# Altium schematic symbol library kmilo17pet-LT_PMIC_LT.SchLib: 2252 symbols (part 26 of 124)
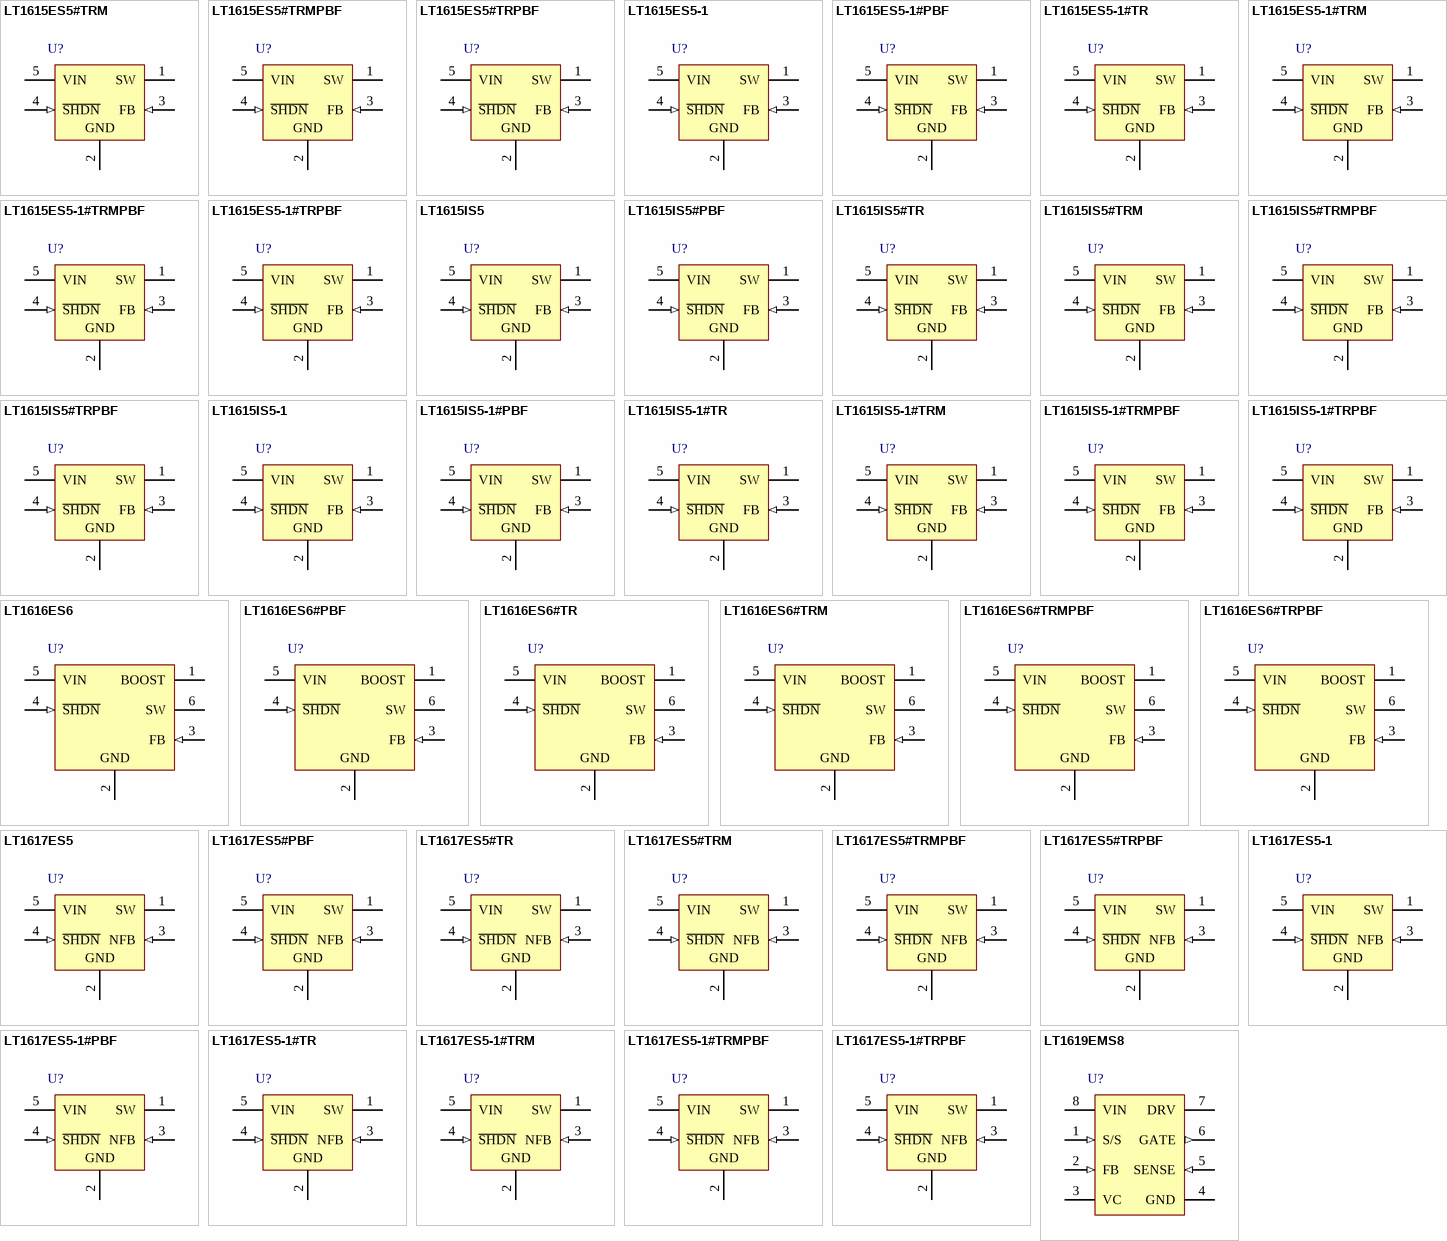
[diagram p96: symbols LT1615ES5#TRM to LT1619EMS8]

## LT1617ES5#TRMPBF
designator U?
Micropower Inverting DC/DC Converter, 5-pin SOT23 (S5-5), -40 to 85 degC, Pb-Free, Mini Tape and Reel; Manufacturer: Linear Technology; PartNumber: LT1617ES5#TRMPBF; Number of Outputs: 1; PackageReference: S5-5; PackageDescription: 5-Pin Plastic SOT-23, Body 1.625 x 2.90 mm, Pitch 0.95 mm; Supplier 1: Digi-Key; Supplier Part Number 1: LT1617ES5#TRMPBFTR-ND; RoHS: TRUE
footprint LT-S5-5-SOT-23_N (SOT23, 5-Leads, Body 3x1.75mm, Pitch 0.95mm, IPC Medium Density)
footprint LT-S5-5-SOT-23_L (SOT23, 5-Leads, Body 3x1.75mm, Pitch 0.95mm, IPC High Density)
footprint LT-S5-5-SOT-23_M (SOT23, 5-Leads, Body 3x1.75mm, Pitch 0.95mm, IPC Low Density)
pins: 1 SW (power) "Switch Pin. Minimize trace area at this pin to keep EMI down.", 2 GND (power) "Ground. Tie directly to local ground plane.", 3 NFB (in) "Negative Feedback Pin.", 4 ~{SHDN} (in) "Shutdown Pin.", 5 VIN (power) "Input Supply Pin. Must be locally bypassed."

## LT1617ES5#TRPBF
designator U?
Micropower Inverting DC/DC Converter, 5-pin SOT23 (S5-5), -40 to 85 degC, Pb-Free, Tape and Reel; Manufacturer: Linear Technology; PartNumber: LT1617ES5#TRPBF; Number of Outputs: 1; PackageReference: S5-5; PackageDescription: 5-Pin Plastic SOT-23, Body 1.625 x 2.90 mm, Pitch 0.95 mm; Supplier 1: Digi-Key; Supplier Part Number 1: LT1617ES5#TRPBF-ND; RoHS: TRUE
footprint LT-S5-5-SOT-23_N (SOT23, 5-Leads, Body 3x1.75mm, Pitch 0.95mm, IPC Medium Density)
footprint LT-S5-5-SOT-23_L (SOT23, 5-Leads, Body 3x1.75mm, Pitch 0.95mm, IPC High Density)
footprint LT-S5-5-SOT-23_M (SOT23, 5-Leads, Body 3x1.75mm, Pitch 0.95mm, IPC Low Density)
pins: 1 SW (power) "Switch Pin. Minimize trace area at this pin to keep EMI down.", 2 GND (power) "Ground. Tie directly to local ground plane.", 3 NFB (in) "Negative Feedback Pin.", 4 ~{SHDN} (in) "Shutdown Pin.", 5 VIN (power) "Input Supply Pin. Must be locally bypassed."

## LT1617ES5-1
designator U?
Micropower Inverting DC/DC Converter, 5-pin SOT23 (S5-5), -40 to 85 degC; Manufacturer: Linear Technology; PartNumber: LT1617ES5-1; Number of Outputs: 1; PackageReference: S5-5; PackageDescription: 5-Pin Plastic SOT-23, Body 1.625 x 2.90 mm, Pitch 0.95 mm; RoHS: FALSE
footprint LT-S5-5-SOT-23_N (SOT23, 5-Leads, Body 3x1.75mm, Pitch 0.95mm, IPC Medium Density)
footprint LT-S5-5-SOT-23_L (SOT23, 5-Leads, Body 3x1.75mm, Pitch 0.95mm, IPC High Density)
footprint LT-S5-5-SOT-23_M (SOT23, 5-Leads, Body 3x1.75mm, Pitch 0.95mm, IPC Low Density)
pins: 1 SW (power) "Switch Pin. Minimize trace area at this pin to keep EMI down.", 2 GND (power) "Ground. Tie directly to local ground plane.", 3 NFB (in) "Negative Feedback Pin.", 4 ~{SHDN} (in) "Shutdown Pin.", 5 VIN (power) "Input Supply Pin. Must be locally bypassed."

## LT1617ES5-1#PBF
designator U?
Micropower Inverting DC/DC Converter, 5-pin SOT23 (S5-5), -40 to 85 degC, Pb-Free; Manufacturer: Linear Technology; PartNumber: LT1617ES5-1#PBF; Number of Outputs: 1; PackageReference: S5-5; PackageDescription: 5-Pin Plastic SOT-23, Body 1.625 x 2.90 mm, Pitch 0.95 mm; Supplier 1: Farnell; Supplier Part Number 1: 2294890; RoHS: TRUE
footprint LT-S5-5-SOT-23_N (SOT23, 5-Leads, Body 3x1.75mm, Pitch 0.95mm, IPC Medium Density)
footprint LT-S5-5-SOT-23_L (SOT23, 5-Leads, Body 3x1.75mm, Pitch 0.95mm, IPC High Density)
footprint LT-S5-5-SOT-23_M (SOT23, 5-Leads, Body 3x1.75mm, Pitch 0.95mm, IPC Low Density)
pins: 1 SW (power) "Switch Pin. Minimize trace area at this pin to keep EMI down.", 2 GND (power) "Ground. Tie directly to local ground plane.", 3 NFB (in) "Negative Feedback Pin.", 4 ~{SHDN} (in) "Shutdown Pin.", 5 VIN (power) "Input Supply Pin. Must be locally bypassed."

## LT1617ES5-1#TR
designator U?
Micropower Inverting DC/DC Converter, 5-pin SOT23 (S5-5), -40 to 85 degC, Tape and Reel; Manufacturer: Linear Technology; PartNumber: LT1617ES5-1#TR; Number of Outputs: 1; PackageReference: S5-5; PackageDescription: 5-Pin Plastic SOT-23, Body 1.625 x 2.90 mm, Pitch 0.95 mm; Supplier 1: Digi-Key; Supplier Part Number 1: LT1617ES5-1#TR-ND; RoHS: FALSE
footprint LT-S5-5-SOT-23_N (SOT23, 5-Leads, Body 3x1.75mm, Pitch 0.95mm, IPC Medium Density)
footprint LT-S5-5-SOT-23_L (SOT23, 5-Leads, Body 3x1.75mm, Pitch 0.95mm, IPC High Density)
footprint LT-S5-5-SOT-23_M (SOT23, 5-Leads, Body 3x1.75mm, Pitch 0.95mm, IPC Low Density)
pins: 1 SW (power) "Switch Pin. Minimize trace area at this pin to keep EMI down.", 2 GND (power) "Ground. Tie directly to local ground plane.", 3 NFB (in) "Negative Feedback Pin.", 4 ~{SHDN} (in) "Shutdown Pin.", 5 VIN (power) "Input Supply Pin. Must be locally bypassed."

## LT1617ES5-1#TRM
designator U?
Micropower Inverting DC/DC Converter, 5-pin SOT23 (S5-5), -40 to 85 degC, Mini Tape and Reel; Manufacturer: Linear Technology; PartNumber: LT1617ES5-1#TRM; Number of Outputs: 1; PackageReference: S5-5; PackageDescription: 5-Pin Plastic SOT-23, Body 1.625 x 2.90 mm, Pitch 0.95 mm; Supplier 1: Digi-Key; Supplier Part Number 1: LT1617ES5-1#TRM-ND; RoHS: FALSE
footprint LT-S5-5-SOT-23_N (SOT23, 5-Leads, Body 3x1.75mm, Pitch 0.95mm, IPC Medium Density)
footprint LT-S5-5-SOT-23_L (SOT23, 5-Leads, Body 3x1.75mm, Pitch 0.95mm, IPC High Density)
footprint LT-S5-5-SOT-23_M (SOT23, 5-Leads, Body 3x1.75mm, Pitch 0.95mm, IPC Low Density)
pins: 1 SW (power) "Switch Pin. Minimize trace area at this pin to keep EMI down.", 2 GND (power) "Ground. Tie directly to local ground plane.", 3 NFB (in) "Negative Feedback Pin.", 4 ~{SHDN} (in) "Shutdown Pin.", 5 VIN (power) "Input Supply Pin. Must be locally bypassed."

## LT1617ES5-1#TRMPBF
designator U?
Micropower Inverting DC/DC Converter, 5-pin SOT23 (S5-5), -40 to 85 degC, Pb-Free, Mini Tape and Reel; Manufacturer: Linear Technology; PartNumber: LT1617ES5-1#TRMPBF; Number of Outputs: 1; PackageReference: S5-5; PackageDescription: 5-Pin Plastic SOT-23, Body 1.625 x 2.90 mm, Pitch 0.95 mm; Supplier 1: Digi-Key; Supplier Part Number 1: LT1617ES5-1#TRMPBFTR-ND; RoHS: TRUE
footprint LT-S5-5-SOT-23_N (SOT23, 5-Leads, Body 3x1.75mm, Pitch 0.95mm, IPC Medium Density)
footprint LT-S5-5-SOT-23_L (SOT23, 5-Leads, Body 3x1.75mm, Pitch 0.95mm, IPC High Density)
footprint LT-S5-5-SOT-23_M (SOT23, 5-Leads, Body 3x1.75mm, Pitch 0.95mm, IPC Low Density)
pins: 1 SW (power) "Switch Pin. Minimize trace area at this pin to keep EMI down.", 2 GND (power) "Ground. Tie directly to local ground plane.", 3 NFB (in) "Negative Feedback Pin.", 4 ~{SHDN} (in) "Shutdown Pin.", 5 VIN (power) "Input Supply Pin. Must be locally bypassed."

## LT1617ES5-1#TRPBF
designator U?
Micropower Inverting DC/DC Converter, 5-pin SOT23 (S5-5), -40 to 85 degC, Pb-Free, Tape and Reel; Manufacturer: Linear Technology; PartNumber: LT1617ES5-1#TRPBF; Number of Outputs: 1; PackageReference: S5-5; PackageDescription: 5-Pin Plastic SOT-23, Body 1.625 x 2.90 mm, Pitch 0.95 mm; Supplier 1: Digi-Key; Supplier Part Number 1: LT1617ES5-1#TRPBF-ND; RoHS: TRUE
footprint LT-S5-5-SOT-23_N (SOT23, 5-Leads, Body 3x1.75mm, Pitch 0.95mm, IPC Medium Density)
footprint LT-S5-5-SOT-23_L (SOT23, 5-Leads, Body 3x1.75mm, Pitch 0.95mm, IPC High Density)
footprint LT-S5-5-SOT-23_M (SOT23, 5-Leads, Body 3x1.75mm, Pitch 0.95mm, IPC Low Density)
pins: 1 SW (power) "Switch Pin. Minimize trace area at this pin to keep EMI down.", 2 GND (power) "Ground. Tie directly to local ground plane.", 3 NFB (in) "Negative Feedback Pin.", 4 ~{SHDN} (in) "Shutdown Pin.", 5 VIN (power) "Input Supply Pin. Must be locally bypassed."

## LT1619EMS8
designator U?
Low Voltage Current Mode PWM Controller, 8-pin SOP (MS8-8), -40 to 85 degC; Manufacturer: Linear Technology; PartNumber: LT1619EMS8; Number of Outputs: 1; PackageReference: MS8-8; PackageDescription: 8-Pin Plastic MSOP, Body 3 x 3 mm, Pitch 0.65 mm; Supplier 1: Digi-Key; Supplier Part Number 1: LT1619EMS8-ND; RoHS: FALSE
footprint LT-MS8-8_N (SOP, 8-Leads, Body 3.1x3.1mm, Pitch 0.65mm, IPC Medium Density)
footprint LT-MS8-8_L (SOP, 8-Leads, Body 3.1x3.1mm, Pitch 0.65mm, IPC High Density)
footprint LT-MS8-8_M (SOP, 8-Leads, Body 3.1x3.1mm, Pitch 0.65mm, IPC Low Density)
pins: 1 S/S (in) "Shutdown and Synchronization. Shutdown is active low with a typical threshold voltage of 0.9V. For normal operation, the S/S pin is tied to VIN. To externally synchronize the controller, drive the S/S pin with pulses.", 2 FB (in) "The inverting Input of the Error Amplifier. Connect the resistor divider tap here. Set VOUT according to VOUT = 1.24(1 + R1/R2). See Figure 1.", 3 VC "Compensation Pin for the Error Amplifier. VC is the output of the transconductance amplifier. Overall loop is compensated with an RC network from this pin to the ground.", 4 GND (power) "Ground. Connect to local ground plane.", 5 SENSE (in) "The Input of the Current Sense Amplifier. The SENSE pin is connected to the source of the N-channel MOSFET and to a sense resistor to the ground. The current limit threshold is internally set at 53mV, giving a maximum switch (See Datasheet)", 6 GATE (out) "The Output of the MOSFET Driver.", 7 DRV (power) "The Pull-Up Supply of the MOSFET Driver. Tie this pin to VIN (Pin 8) for nonbootstrapped operation or to the converter output for bootstrapped operation.", 8 VIN (power) "Supply or Battery Input. Must be closely bypassed to the ground plane."

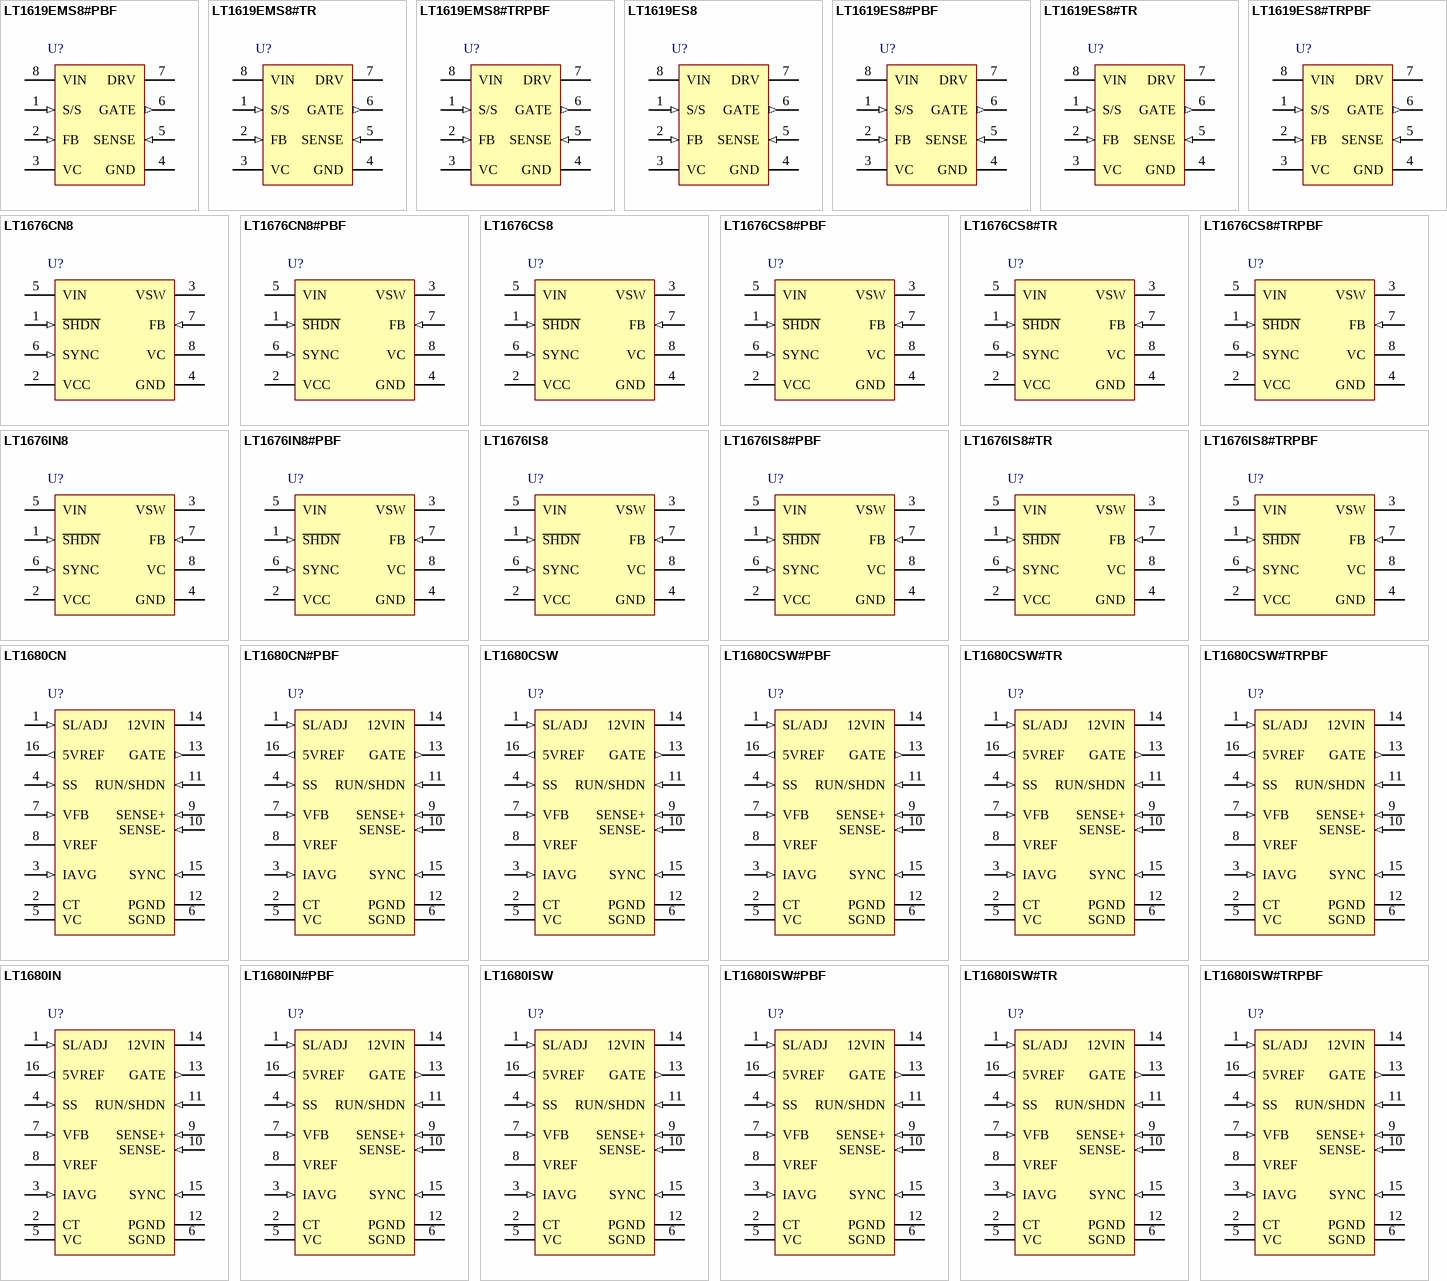
[diagram p18: symbols LT1619EMS8#PBF to LT1680ISW#TRPBF]

## LT1619EMS8#PBF
designator U?
Low Voltage Current Mode PWM Controller, 8-pin SOP (MS8-8), -40 to 85 degC, Pb-Free; Manufacturer: Linear Technology; PartNumber: LT1619EMS8#PBF; Number of Outputs: 1; PackageReference: MS8-8; PackageDescription: 8-Pin Plastic MSOP, Body 3 x 3 mm, Pitch 0.65 mm; Supplier 1: Digi-Key; Supplier Part Number 1: LT1619EMS8#PBF-ND; RoHS: TRUE
footprint LT-MS8-8_N (SOP, 8-Leads, Body 3.1x3.1mm, Pitch 0.65mm, IPC Medium Density)
footprint LT-MS8-8_L (SOP, 8-Leads, Body 3.1x3.1mm, Pitch 0.65mm, IPC High Density)
footprint LT-MS8-8_M (SOP, 8-Leads, Body 3.1x3.1mm, Pitch 0.65mm, IPC Low Density)
pins: 1 S/S (in) "Shutdown and Synchronization. Shutdown is active low with a typical threshold voltage of 0.9V. For normal operation, the S/S pin is tied to VIN. To externally synchronize the controller, drive the S/S pin with pulses.", 2 FB (in) "The inverting Input of the Error Amplifier. Connect the resistor divider tap here. Set VOUT according to VOUT = 1.24(1 + R1/R2). See Figure 1.", 3 VC "Compensation Pin for the Error Amplifier. VC is the output of the transconductance amplifier. Overall loop is compensated with an RC network from this pin to the ground.", 4 GND (power) "Ground. Connect to local ground plane.", 5 SENSE (in) "The Input of the Current Sense Amplifier. The SENSE pin is connected to the source of the N-channel MOSFET and to a sense resistor to the ground. The current limit threshold is internally set at 53mV, giving a maximum switch (See Datasheet)", 6 GATE (out) "The Output of the MOSFET Driver.", 7 DRV (power) "The Pull-Up Supply of the MOSFET Driver. Tie this pin to VIN (Pin 8) for nonbootstrapped operation or to the converter output for bootstrapped operation.", 8 VIN (power) "Supply or Battery Input. Must be closely bypassed to the ground plane."

## LT1619EMS8#TR
designator U?
Low Voltage Current Mode PWM Controller, 8-pin SOP (MS8-8), -40 to 85 degC, Tape and Reel; Manufacturer: Linear Technology; PartNumber: LT1619EMS8#TR; Number of Outputs: 1; PackageReference: MS8-8; PackageDescription: 8-Pin Plastic MSOP, Body 3 x 3 mm, Pitch 0.65 mm; Supplier 1: Digi-Key; Supplier Part Number 1: LT1619EMS8TR-ND; RoHS: FALSE
footprint LT-MS8-8_N (SOP, 8-Leads, Body 3.1x3.1mm, Pitch 0.65mm, IPC Medium Density)
footprint LT-MS8-8_L (SOP, 8-Leads, Body 3.1x3.1mm, Pitch 0.65mm, IPC High Density)
footprint LT-MS8-8_M (SOP, 8-Leads, Body 3.1x3.1mm, Pitch 0.65mm, IPC Low Density)
pins: 1 S/S (in) "Shutdown and Synchronization. Shutdown is active low with a typical threshold voltage of 0.9V. For normal operation, the S/S pin is tied to VIN. To externally synchronize the controller, drive the S/S pin with pulses.", 2 FB (in) "The inverting Input of the Error Amplifier. Connect the resistor divider tap here. Set VOUT according to VOUT = 1.24(1 + R1/R2). See Figure 1.", 3 VC "Compensation Pin for the Error Amplifier. VC is the output of the transconductance amplifier. Overall loop is compensated with an RC network from this pin to the ground.", 4 GND (power) "Ground. Connect to local ground plane.", 5 SENSE (in) "The Input of the Current Sense Amplifier. The SENSE pin is connected to the source of the N-channel MOSFET and to a sense resistor to the ground. The current limit threshold is internally set at 53mV, giving a maximum switch (See Datasheet)", 6 GATE (out) "The Output of the MOSFET Driver.", 7 DRV (power) "The Pull-Up Supply of the MOSFET Driver. Tie this pin to VIN (Pin 8) for nonbootstrapped operation or to the converter output for bootstrapped operation.", 8 VIN (power) "Supply or Battery Input. Must be closely bypassed to the ground plane."

## LT1619EMS8#TRPBF
designator U?
Low Voltage Current Mode PWM Controller, 8-pin SOP (MS8-8), -40 to 85 degC, Pb-Free, Tape and Reel; Manufacturer: Linear Technology; PartNumber: LT1619EMS8#TRPBF; Number of Outputs: 1; PackageReference: MS8-8; PackageDescription: 8-Pin Plastic MSOP, Body 3 x 3 mm, Pitch 0.65 mm; Supplier 1: Digi-Key; Supplier Part Number 1: LT1619EMS8#TRPBF-ND; RoHS: TRUE
footprint LT-MS8-8_N (SOP, 8-Leads, Body 3.1x3.1mm, Pitch 0.65mm, IPC Medium Density)
footprint LT-MS8-8_L (SOP, 8-Leads, Body 3.1x3.1mm, Pitch 0.65mm, IPC High Density)
footprint LT-MS8-8_M (SOP, 8-Leads, Body 3.1x3.1mm, Pitch 0.65mm, IPC Low Density)
pins: 1 S/S (in) "Shutdown and Synchronization. Shutdown is active low with a typical threshold voltage of 0.9V. For normal operation, the S/S pin is tied to VIN. To externally synchronize the controller, drive the S/S pin with pulses.", 2 FB (in) "The inverting Input of the Error Amplifier. Connect the resistor divider tap here. Set VOUT according to VOUT = 1.24(1 + R1/R2). See Figure 1.", 3 VC "Compensation Pin for the Error Amplifier. VC is the output of the transconductance amplifier. Overall loop is compensated with an RC network from this pin to the ground.", 4 GND (power) "Ground. Connect to local ground plane.", 5 SENSE (in) "The Input of the Current Sense Amplifier. The SENSE pin is connected to the source of the N-channel MOSFET and to a sense resistor to the ground. The current limit threshold is internally set at 53mV, giving a maximum switch (See Datasheet)", 6 GATE (out) "The Output of the MOSFET Driver.", 7 DRV (power) "The Pull-Up Supply of the MOSFET Driver. Tie this pin to VIN (Pin 8) for nonbootstrapped operation or to the converter output for bootstrapped operation.", 8 VIN (power) "Supply or Battery Input. Must be closely bypassed to the ground plane."

## LT1619ES8
designator U?
Low Voltage Current Mode PWM Controller, 8-pin SOIC (S8-8), -40 to 85 degC; Manufacturer: Linear Technology; PartNumber: LT1619ES8; Number of Outputs: 1; PackageReference: S8-8; PackageDescription: 8-Pin Plastic Small Outline (Narrow .150 Inch), Body 4.9 x 3.9 mm, Pitch 1.27 mm; Supplier 1: Digi-Key; Supplier Part Number 1: LT1619ES8-ND; RoHS: FALSE
footprint LT-S8-8_N (SOIC, 8-Leads, Body 5x4mm, Pitch 1.27mm, IPC Medium Density)
footprint LT-S8-8_L (SOIC, 8-Leads, Body 5x4mm, Pitch 1.27mm, IPC High Density)
footprint LT-S8-8_M (SOIC, 8-Leads, Body 5x4mm, Pitch 1.27mm, IPC Low Density)
pins: 1 S/S (in) "Shutdown and Synchronization. Shutdown is active low with a typical threshold voltage of 0.9V. For normal operation, the S/S pin is tied to VIN. To externally synchronize the controller, drive the S/S pin with pulses.", 2 FB (in) "The inverting Input of the Error Amplifier. Connect the resistor divider tap here. Set VOUT according to VOUT = 1.24(1 + R1/R2). See Figure 1.", 3 VC "Compensation Pin for the Error Amplifier. VC is the output of the transconductance amplifier. Overall loop is compensated with an RC network from this pin to the ground.", 4 GND (power) "Ground. Connect to local ground plane.", 5 SENSE (in) "The Input of the Current Sense Amplifier. The SENSE pin is connected to the source of the N-channel MOSFET and to a sense resistor to the ground. The current limit threshold is internally set at 53mV, giving a maximum switch (See Datasheet)", 6 GATE (out) "The Output of the MOSFET Driver.", 7 DRV (power) "The Pull-Up Supply of the MOSFET Driver. Tie this pin to VIN (Pin 8) for nonbootstrapped operation or to the converter output for bootstrapped operation.", 8 VIN (power) "Supply or Battery Input. Must be closely bypassed to the ground plane."

## LT1619ES8#PBF
designator U?
Low Voltage Current Mode PWM Controller, 8-pin SOIC (S8-8), -40 to 85 degC, Pb-Free; Manufacturer: Linear Technology; PartNumber: LT1619ES8#PBF; Number of Outputs: 1; PackageReference: S8-8; PackageDescription: 8-Pin Plastic Small Outline (Narrow .150 Inch), Body 4.9 x 3.9 mm, Pitch 1.27 mm; Supplier 1: Digi-Key; Supplier Part Number 1: LT1619ES8#PBF-ND; RoHS: TRUE
footprint LT-S8-8_N (SOIC, 8-Leads, Body 5x4mm, Pitch 1.27mm, IPC Medium Density)
footprint LT-S8-8_L (SOIC, 8-Leads, Body 5x4mm, Pitch 1.27mm, IPC High Density)
footprint LT-S8-8_M (SOIC, 8-Leads, Body 5x4mm, Pitch 1.27mm, IPC Low Density)
pins: 1 S/S (in) "Shutdown and Synchronization. Shutdown is active low with a typical threshold voltage of 0.9V. For normal operation, the S/S pin is tied to VIN. To externally synchronize the controller, drive the S/S pin with pulses.", 2 FB (in) "The inverting Input of the Error Amplifier. Connect the resistor divider tap here. Set VOUT according to VOUT = 1.24(1 + R1/R2). See Figure 1.", 3 VC "Compensation Pin for the Error Amplifier. VC is the output of the transconductance amplifier. Overall loop is compensated with an RC network from this pin to the ground.", 4 GND (power) "Ground. Connect to local ground plane.", 5 SENSE (in) "The Input of the Current Sense Amplifier. The SENSE pin is connected to the source of the N-channel MOSFET and to a sense resistor to the ground. The current limit threshold is internally set at 53mV, giving a maximum switch (See Datasheet)", 6 GATE (out) "The Output of the MOSFET Driver.", 7 DRV (power) "The Pull-Up Supply of the MOSFET Driver. Tie this pin to VIN (Pin 8) for nonbootstrapped operation or to the converter output for bootstrapped operation.", 8 VIN (power) "Supply or Battery Input. Must be closely bypassed to the ground plane."

## LT1619ES8#TR
designator U?
Low Voltage Current Mode PWM Controller, 8-pin SOIC (S8-8), -40 to 85 degC, Tape and Reel; Manufacturer: Linear Technology; PartNumber: LT1619ES8#TR; Number of Outputs: 1; PackageReference: S8-8; PackageDescription: 8-Pin Plastic Small Outline (Narrow .150 Inch), Body 4.9 x 3.9 mm, Pitch 1.27 mm; Supplier 1: Digi-Key; Supplier Part Number 1: LT1619ES8TR-ND; RoHS: FALSE
footprint LT-S8-8_N (SOIC, 8-Leads, Body 5x4mm, Pitch 1.27mm, IPC Medium Density)
footprint LT-S8-8_L (SOIC, 8-Leads, Body 5x4mm, Pitch 1.27mm, IPC High Density)
footprint LT-S8-8_M (SOIC, 8-Leads, Body 5x4mm, Pitch 1.27mm, IPC Low Density)
pins: 1 S/S (in) "Shutdown and Synchronization. Shutdown is active low with a typical threshold voltage of 0.9V. For normal operation, the S/S pin is tied to VIN. To externally synchronize the controller, drive the S/S pin with pulses.", 2 FB (in) "The inverting Input of the Error Amplifier. Connect the resistor divider tap here. Set VOUT according to VOUT = 1.24(1 + R1/R2). See Figure 1.", 3 VC "Compensation Pin for the Error Amplifier. VC is the output of the transconductance amplifier. Overall loop is compensated with an RC network from this pin to the ground.", 4 GND (power) "Ground. Connect to local ground plane.", 5 SENSE (in) "The Input of the Current Sense Amplifier. The SENSE pin is connected to the source of the N-channel MOSFET and to a sense resistor to the ground. The current limit threshold is internally set at 53mV, giving a maximum switch (See Datasheet)", 6 GATE (out) "The Output of the MOSFET Driver.", 7 DRV (power) "The Pull-Up Supply of the MOSFET Driver. Tie this pin to VIN (Pin 8) for nonbootstrapped operation or to the converter output for bootstrapped operation.", 8 VIN (power) "Supply or Battery Input. Must be closely bypassed to the ground plane."

## LT1619ES8#TRPBF
designator U?
Low Voltage Current Mode PWM Controller, 8-pin SOIC (S8-8), -40 to 85 degC, Pb-Free, Tape and Reel; Manufacturer: Linear Technology; PartNumber: LT1619ES8#TRPBF; Number of Outputs: 1; PackageReference: S8-8; PackageDescription: 8-Pin Plastic Small Outline (Narrow .150 Inch), Body 4.9 x 3.9 mm, Pitch 1.27 mm; Supplier 1: Digi-Key; Supplier Part Number 1: LT1619ES8#TRPBF-ND; RoHS: TRUE
footprint LT-S8-8_N (SOIC, 8-Leads, Body 5x4mm, Pitch 1.27mm, IPC Medium Density)
footprint LT-S8-8_L (SOIC, 8-Leads, Body 5x4mm, Pitch 1.27mm, IPC High Density)
footprint LT-S8-8_M (SOIC, 8-Leads, Body 5x4mm, Pitch 1.27mm, IPC Low Density)
pins: 1 S/S (in) "Shutdown and Synchronization. Shutdown is active low with a typical threshold voltage of 0.9V. For normal operation, the S/S pin is tied to VIN. To externally synchronize the controller, drive the S/S pin with pulses.", 2 FB (in) "The inverting Input of the Error Amplifier. Connect the resistor divider tap here. Set VOUT according to VOUT = 1.24(1 + R1/R2). See Figure 1.", 3 VC "Compensation Pin for the Error Amplifier. VC is the output of the transconductance amplifier. Overall loop is compensated with an RC network from this pin to the ground.", 4 GND (power) "Ground. Connect to local ground plane.", 5 SENSE (in) "The Input of the Current Sense Amplifier. The SENSE pin is connected to the source of the N-channel MOSFET and to a sense resistor to the ground. The current limit threshold is internally set at 53mV, giving a maximum switch (See Datasheet)", 6 GATE (out) "The Output of the MOSFET Driver.", 7 DRV (power) "The Pull-Up Supply of the MOSFET Driver. Tie this pin to VIN (Pin 8) for nonbootstrapped operation or to the converter output for bootstrapped operation.", 8 VIN (power) "Supply or Battery Input. Must be closely bypassed to the ground plane."

## LT1676CN8
designator U?
Wide Input Range, High Efficiency, Step-Down Switching Regulator, 8-pin DIP (N8-8), 0 to 125 degC; Manufacturer: Linear Technology; PartNumber: LT1676CN8; Number of Outputs: 1; PackageReference: N8-8; PackageDescription: 8-Pin PDIP, Body 10.16 x 6.48 mm, Pitch 2.54 mm; Supplier 1: Digi-Key; Supplier Part Number 1: LT1676CN8-ND; RoHS: FALSE
footprint LT-N8-8 (DIP, 8-Leads, Body 10.15x6.85mm, Pitch 2.54mm)
pins: 1 ~{SHDN} (in) "When pulled below the shutdown mode threshold, nominally 0.30V, this pin turns off the regulator and reduces VIN input current to a few tens of microamperes (shutdown mode).", 2 VCC (power) "This pin is used to power the internal control circuitry off of the switching supply output. Proper use of this pin enhances overall power supply efficiency. During start-up conditions, internal control circuitry is powered (See Datasheet)", 3 VSW (power) "This is the emitter node of the output switch and has large currents flowing through it. This node moves at a high dV/dt rate, especially when in “boost” mode. Keep the traces to the switching components as short(See Datasheet)", 4 GND (power) "This is the device ground pin. The internal reference and feedback amplifier are referred to it. Keep the ground path connection to the FB divider and the VC compensation capacitor free of large ground currents.", 5 VIN (power) "This is the high voltage supply pin for the output switch. It also supplies power to the internal control circuitry during start-up conditions or if the VCC pin is left open. A high quality bypass capacitor which meets the (See Datasheet)", 6 SYNC (in) "Pin used to synchronize internal oscillator to the external frequency reference. It is directly logic compatible and can be driven with any signal between 10% and 90% duty cycle. The sync function is internally disabled if (See Datasheet)", 7 FB (in) "This is the inverting input to the feedback amplifier. The noninverting input of this amplifier is internally tied to the 1.24V reference. This pin also slows down the frequency of the internal oscillator when its voltage is (See Datasheet)", 8 VC "This is the control voltage pin which is the output of the feedback amplifier and the input of the current comparator. Frequency compensation of the overall loop is effected by placing a capacitor, (or in most cases a series (See Datasheet)"

## LT1676CN8#PBF
designator U?
Wide Input Range, High Efficiency, Step-Down Switching Regulator, 8-pin DIP (N8-8), 0 to 125 degC, Pb-Free; Manufacturer: Linear Technology; PartNumber: LT1676CN8#PBF; Number of Outputs: 1; PackageReference: N8-8; PackageDescription: 8-Pin PDIP, Body 10.16 x 6.48 mm, Pitch 2.54 mm; Supplier 1: Digi-Key; Supplier Part Number 1: LT1676CN8#PBF-ND; RoHS: TRUE
footprint LT-N8-8 (DIP, 8-Leads, Body 10.15x6.85mm, Pitch 2.54mm)
pins: 1 ~{SHDN} (in) "When pulled below the shutdown mode threshold, nominally 0.30V, this pin turns off the regulator and reduces VIN input current to a few tens of microamperes (shutdown mode).", 2 VCC (power) "This pin is used to power the internal control circuitry off of the switching supply output. Proper use of this pin enhances overall power supply efficiency. During start-up conditions, internal control circuitry is powered (See Datasheet)", 3 VSW (power) "This is the emitter node of the output switch and has large currents flowing through it. This node moves at a high dV/dt rate, especially when in “boost” mode. Keep the traces to the switching components as short(See Datasheet)", 4 GND (power) "This is the device ground pin. The internal reference and feedback amplifier are referred to it. Keep the ground path connection to the FB divider and the VC compensation capacitor free of large ground currents.", 5 VIN (power) "This is the high voltage supply pin for the output switch. It also supplies power to the internal control circuitry during start-up conditions or if the VCC pin is left open. A high quality bypass capacitor which meets the (See Datasheet)", 6 SYNC (in) "Pin used to synchronize internal oscillator to the external frequency reference. It is directly logic compatible and can be driven with any signal between 10% and 90% duty cycle. The sync function is internally disabled if (See Datasheet)", 7 FB (in) "This is the inverting input to the feedback amplifier. The noninverting input of this amplifier is internally tied to the 1.24V reference. This pin also slows down the frequency of the internal oscillator when its voltage is (See Datasheet)", 8 VC "This is the control voltage pin which is the output of the feedback amplifier and the input of the current comparator. Frequency compensation of the overall loop is effected by placing a capacitor, (or in most cases a series (See Datasheet)"

## LT1676CS8
designator U?
Wide Input Range, High Efficiency, Step-Down Switching Regulator, 8-pin SOIC (S8-8), 0 to 125 degC; Manufacturer: Linear Technology; PartNumber: LT1676CS8; Number of Outputs: 1; PackageReference: S8-8; PackageDescription: 8-Pin Plastic Small Outline (Narrow .150 Inch), Body 4.9 x 3.9 mm, Pitch 1.27 mm; Supplier 1: Digi-Key; Supplier Part Number 1: LT1676CS8-ND; RoHS: FALSE
footprint LT-S8-8_N (SOIC, 8-Leads, Body 5x4mm, Pitch 1.27mm, IPC Medium Density)
footprint LT-S8-8_L (SOIC, 8-Leads, Body 5x4mm, Pitch 1.27mm, IPC High Density)
footprint LT-S8-8_M (SOIC, 8-Leads, Body 5x4mm, Pitch 1.27mm, IPC Low Density)
pins: 1 ~{SHDN} (in) "When pulled below the shutdown mode threshold, nominally 0.30V, this pin turns off the regulator and reduces VIN input current to a few tens of microamperes (shutdown mode).", 2 VCC (power) "This pin is used to power the internal control circuitry off of the switching supply output. Proper use of this pin enhances overall power supply efficiency. During start-up conditions, internal control circuitry is powered (See Datasheet)", 3 VSW (power) "This is the emitter node of the output switch and has large currents flowing through it. This node moves at a high dV/dt rate, especially when in “boost” mode. Keep the traces to the switching components as short(See Datasheet)", 4 GND (power) "This is the device ground pin. The internal reference and feedback amplifier are referred to it. Keep the ground path connection to the FB divider and the VC compensation capacitor free of large ground currents.", 5 VIN (power) "This is the high voltage supply pin for the output switch. It also supplies power to the internal control circuitry during start-up conditions or if the VCC pin is left open. A high quality bypass capacitor which meets the (See Datasheet)", 6 SYNC (in) "Pin used to synchronize internal oscillator to the external frequency reference. It is directly logic compatible and can be driven with any signal between 10% and 90% duty cycle. The sync function is internally disabled if (See Datasheet)", 7 FB (in) "This is the inverting input to the feedback amplifier. The noninverting input of this amplifier is internally tied to the 1.24V reference. This pin also slows down the frequency of the internal oscillator when its voltage is (See Datasheet)", 8 VC "This is the control voltage pin which is the output of the feedback amplifier and the input of the current comparator. Frequency compensation of the overall loop is effected by placing a capacitor, (or in most cases a series (See Datasheet)"

## LT1676CS8#PBF
designator U?
Wide Input Range, High Efficiency, Step-Down Switching Regulator, 8-pin SOIC (S8-8), 0 to 125 degC, Pb-Free; Manufacturer: Linear Technology; PartNumber: LT1676CS8#PBF; Number of Outputs: 1; PackageReference: S8-8; PackageDescription: 8-Pin Plastic Small Outline (Narrow .150 Inch), Body 4.9 x 3.9 mm, Pitch 1.27 mm; Supplier 1: Digi-Key; Supplier Part Number 1: LT1676CS8#PBF-ND; RoHS: TRUE
footprint LT-S8-8_N (SOIC, 8-Leads, Body 5x4mm, Pitch 1.27mm, IPC Medium Density)
footprint LT-S8-8_L (SOIC, 8-Leads, Body 5x4mm, Pitch 1.27mm, IPC High Density)
footprint LT-S8-8_M (SOIC, 8-Leads, Body 5x4mm, Pitch 1.27mm, IPC Low Density)
pins: 1 ~{SHDN} (in) "When pulled below the shutdown mode threshold, nominally 0.30V, this pin turns off the regulator and reduces VIN input current to a few tens of microamperes (shutdown mode).", 2 VCC (power) "This pin is used to power the internal control circuitry off of the switching supply output. Proper use of this pin enhances overall power supply efficiency. During start-up conditions, internal control circuitry is powered (See Datasheet)", 3 VSW (power) "This is the emitter node of the output switch and has large currents flowing through it. This node moves at a high dV/dt rate, especially when in “boost” mode. Keep the traces to the switching components as short(See Datasheet)", 4 GND (power) "This is the device ground pin. The internal reference and feedback amplifier are referred to it. Keep the ground path connection to the FB divider and the VC compensation capacitor free of large ground currents.", 5 VIN (power) "This is the high voltage supply pin for the output switch. It also supplies power to the internal control circuitry during start-up conditions or if the VCC pin is left open. A high quality bypass capacitor which meets the (See Datasheet)", 6 SYNC (in) "Pin used to synchronize internal oscillator to the external frequency reference. It is directly logic compatible and can be driven with any signal between 10% and 90% duty cycle. The sync function is internally disabled if (See Datasheet)", 7 FB (in) "This is the inverting input to the feedback amplifier. The noninverting input of this amplifier is internally tied to the 1.24V reference. This pin also slows down the frequency of the internal oscillator when its voltage is (See Datasheet)", 8 VC "This is the control voltage pin which is the output of the feedback amplifier and the input of the current comparator. Frequency compensation of the overall loop is effected by placing a capacitor, (or in most cases a series (See Datasheet)"

## LT1676CS8#TR
designator U?
Wide Input Range, High Efficiency, Step-Down Switching Regulator, 8-pin SOIC (S8-8), 0 to 125 degC, Tape and Reel; Manufacturer: Linear Technology; PartNumber: LT1676CS8#TR; Number of Outputs: 1; PackageReference: S8-8; PackageDescription: 8-Pin Plastic Small Outline (Narrow .150 Inch), Body 4.9 x 3.9 mm, Pitch 1.27 mm; Supplier 1: Digi-Key; Supplier Part Number 1: LT1676CS8#TR-ND; RoHS: FALSE
footprint LT-S8-8_N (SOIC, 8-Leads, Body 5x4mm, Pitch 1.27mm, IPC Medium Density)
footprint LT-S8-8_L (SOIC, 8-Leads, Body 5x4mm, Pitch 1.27mm, IPC High Density)
footprint LT-S8-8_M (SOIC, 8-Leads, Body 5x4mm, Pitch 1.27mm, IPC Low Density)
pins: 1 ~{SHDN} (in) "When pulled below the shutdown mode threshold, nominally 0.30V, this pin turns off the regulator and reduces VIN input current to a few tens of microamperes (shutdown mode).", 2 VCC (power) "This pin is used to power the internal control circuitry off of the switching supply output. Proper use of this pin enhances overall power supply efficiency. During start-up conditions, internal control circuitry is powered (See Datasheet)", 3 VSW (power) "This is the emitter node of the output switch and has large currents flowing through it. This node moves at a high dV/dt rate, especially when in “boost” mode. Keep the traces to the switching components as short(See Datasheet)", 4 GND (power) "This is the device ground pin. The internal reference and feedback amplifier are referred to it. Keep the ground path connection to the FB divider and the VC compensation capacitor free of large ground currents.", 5 VIN (power) "This is the high voltage supply pin for the output switch. It also supplies power to the internal control circuitry during start-up conditions or if the VCC pin is left open. A high quality bypass capacitor which meets the (See Datasheet)", 6 SYNC (in) "Pin used to synchronize internal oscillator to the external frequency reference. It is directly logic compatible and can be driven with any signal between 10% and 90% duty cycle. The sync function is internally disabled if (See Datasheet)", 7 FB (in) "This is the inverting input to the feedback amplifier. The noninverting input of this amplifier is internally tied to the 1.24V reference. This pin also slows down the frequency of the internal oscillator when its voltage is (See Datasheet)", 8 VC "This is the control voltage pin which is the output of the feedback amplifier and the input of the current comparator. Frequency compensation of the overall loop is effected by placing a capacitor, (or in most cases a series (See Datasheet)"

## LT1676CS8#TRPBF
designator U?
Wide Input Range, High Efficiency, Step-Down Switching Regulator, 8-pin SOIC (S8-8), 0 to 125 degC, Pb-Free, Tape and Reel; Manufacturer: Linear Technology; PartNumber: LT1676CS8#TRPBF; Number of Outputs: 1; PackageReference: S8-8; PackageDescription: 8-Pin Plastic Small Outline (Narrow .150 Inch), Body 4.9 x 3.9 mm, Pitch 1.27 mm; Supplier 1: Digi-Key; Supplier Part Number 1: LT1676CS8#TRPBF-ND; RoHS: TRUE
footprint LT-S8-8_N (SOIC, 8-Leads, Body 5x4mm, Pitch 1.27mm, IPC Medium Density)
footprint LT-S8-8_L (SOIC, 8-Leads, Body 5x4mm, Pitch 1.27mm, IPC High Density)
footprint LT-S8-8_M (SOIC, 8-Leads, Body 5x4mm, Pitch 1.27mm, IPC Low Density)
pins: 1 ~{SHDN} (in) "When pulled below the shutdown mode threshold, nominally 0.30V, this pin turns off the regulator and reduces VIN input current to a few tens of microamperes (shutdown mode).", 2 VCC (power) "This pin is used to power the internal control circuitry off of the switching supply output. Proper use of this pin enhances overall power supply efficiency. During start-up conditions, internal control circuitry is powered (See Datasheet)", 3 VSW (power) "This is the emitter node of the output switch and has large currents flowing through it. This node moves at a high dV/dt rate, especially when in “boost” mode. Keep the traces to the switching components as short(See Datasheet)", 4 GND (power) "This is the device ground pin. The internal reference and feedback amplifier are referred to it. Keep the ground path connection to the FB divider and the VC compensation capacitor free of large ground currents.", 5 VIN (power) "This is the high voltage supply pin for the output switch. It also supplies power to the internal control circuitry during start-up conditions or if the VCC pin is left open. A high quality bypass capacitor which meets the (See Datasheet)", 6 SYNC (in) "Pin used to synchronize internal oscillator to the external frequency reference. It is directly logic compatible and can be driven with any signal between 10% and 90% duty cycle. The sync function is internally disabled if (See Datasheet)", 7 FB (in) "This is the inverting input to the feedback amplifier. The noninverting input of this amplifier is internally tied to the 1.24V reference. This pin also slows down the frequency of the internal oscillator when its voltage is (See Datasheet)", 8 VC "This is the control voltage pin which is the output of the feedback amplifier and the input of the current comparator. Frequency compensation of the overall loop is effected by placing a capacitor, (or in most cases a series (See Datasheet)"

## LT1676IN8
designator U?
Wide Input Range, High Efficiency, Step-Down Switching Regulator, 8-pin DIP (N8-8), -40 to 125 degC; Manufacturer: Linear Technology; PartNumber: LT1676IN8; Number of Outputs: 1; PackageReference: N8-8; PackageDescription: 8-Pin PDIP, Body 10.16 x 6.48 mm, Pitch 2.54 mm; Supplier 1: Digi-Key; Supplier Part Number 1: LT1676IN8-ND; RoHS: FALSE
footprint LT-N8-8 (DIP, 8-Leads, Body 10.15x6.85mm, Pitch 2.54mm)
pins: 1 ~{SHDN} (in) "When pulled below the shutdown mode threshold, nominally 0.30V, this pin turns off the regulator and reduces VIN input current to a few tens of microamperes (shutdown mode).", 2 VCC (power) "This pin is used to power the internal control circuitry off of the switching supply output. Proper use of this pin enhances overall power supply efficiency. During start-up conditions, internal control circuitry is powered (See Datasheet)", 3 VSW (power) "This is the emitter node of the output switch and has large currents flowing through it. This node moves at a high dV/dt rate, especially when in “boost” mode. Keep the traces to the switching components as short(See Datasheet)", 4 GND (power) "This is the device ground pin. The internal reference and feedback amplifier are referred to it. Keep the ground path connection to the FB divider and the VC compensation capacitor free of large ground currents.", 5 VIN (power) "This is the high voltage supply pin for the output switch. It also supplies power to the internal control circuitry during start-up conditions or if the VCC pin is left open. A high quality bypass capacitor which meets the (See Datasheet)", 6 SYNC (in) "Pin used to synchronize internal oscillator to the external frequency reference. It is directly logic compatible and can be driven with any signal between 10% and 90% duty cycle. The sync function is internally disabled if (See Datasheet)", 7 FB (in) "This is the inverting input to the feedback amplifier. The noninverting input of this amplifier is internally tied to the 1.24V reference. This pin also slows down the frequency of the internal oscillator when its voltage is (See Datasheet)", 8 VC "This is the control voltage pin which is the output of the feedback amplifier and the input of the current comparator. Frequency compensation of the overall loop is effected by placing a capacitor, (or in most cases a series (See Datasheet)"

## LT1676IN8#PBF
designator U?
Wide Input Range, High Efficiency, Step-Down Switching Regulator, 8-pin DIP (N8-8), -40 to 125 degC, Pb-Free; Manufacturer: Linear Technology; PartNumber: LT1676IN8#PBF; Number of Outputs: 1; PackageReference: N8-8; PackageDescription: 8-Pin PDIP, Body 10.16 x 6.48 mm, Pitch 2.54 mm; Supplier 1: Digi-Key; Supplier Part Number 1: LT1676IN8#PBF-ND; RoHS: TRUE
footprint LT-N8-8 (DIP, 8-Leads, Body 10.15x6.85mm, Pitch 2.54mm)
pins: 1 ~{SHDN} (in) "When pulled below the shutdown mode threshold, nominally 0.30V, this pin turns off the regulator and reduces VIN input current to a few tens of microamperes (shutdown mode).", 2 VCC (power) "This pin is used to power the internal control circuitry off of the switching supply output. Proper use of this pin enhances overall power supply efficiency. During start-up conditions, internal control circuitry is powered (See Datasheet)", 3 VSW (power) "This is the emitter node of the output switch and has large currents flowing through it. This node moves at a high dV/dt rate, especially when in “boost” mode. Keep the traces to the switching components as short(See Datasheet)", 4 GND (power) "This is the device ground pin. The internal reference and feedback amplifier are referred to it. Keep the ground path connection to the FB divider and the VC compensation capacitor free of large ground currents.", 5 VIN (power) "This is the high voltage supply pin for the output switch. It also supplies power to the internal control circuitry during start-up conditions or if the VCC pin is left open. A high quality bypass capacitor which meets the (See Datasheet)", 6 SYNC (in) "Pin used to synchronize internal oscillator to the external frequency reference. It is directly logic compatible and can be driven with any signal between 10% and 90% duty cycle. The sync function is internally disabled if (See Datasheet)", 7 FB (in) "This is the inverting input to the feedback amplifier. The noninverting input of this amplifier is internally tied to the 1.24V reference. This pin also slows down the frequency of the internal oscillator when its voltage is (See Datasheet)", 8 VC "This is the control voltage pin which is the output of the feedback amplifier and the input of the current comparator. Frequency compensation of the overall loop is effected by placing a capacitor, (or in most cases a series (See Datasheet)"

## LT1676IS8
designator U?
Wide Input Range, High Efficiency, Step-Down Switching Regulator, 8-pin SOIC (S8-8), -40 to 125 degC; Manufacturer: Linear Technology; PartNumber: LT1676IS8; Number of Outputs: 1; PackageReference: S8-8; PackageDescription: 8-Pin Plastic Small Outline (Narrow .150 Inch), Body 4.9 x 3.9 mm, Pitch 1.27 mm; Supplier 1: Digi-Key; Supplier Part Number 1: LT1676IS8-ND; RoHS: FALSE
footprint LT-S8-8_N (SOIC, 8-Leads, Body 5x4mm, Pitch 1.27mm, IPC Medium Density)
footprint LT-S8-8_L (SOIC, 8-Leads, Body 5x4mm, Pitch 1.27mm, IPC High Density)
footprint LT-S8-8_M (SOIC, 8-Leads, Body 5x4mm, Pitch 1.27mm, IPC Low Density)
pins: 1 ~{SHDN} (in) "When pulled below the shutdown mode threshold, nominally 0.30V, this pin turns off the regulator and reduces VIN input current to a few tens of microamperes (shutdown mode).", 2 VCC (power) "This pin is used to power the internal control circuitry off of the switching supply output. Proper use of this pin enhances overall power supply efficiency. During start-up conditions, internal control circuitry is powered (See Datasheet)", 3 VSW (power) "This is the emitter node of the output switch and has large currents flowing through it. This node moves at a high dV/dt rate, especially when in “boost” mode. Keep the traces to the switching components as short(See Datasheet)", 4 GND (power) "This is the device ground pin. The internal reference and feedback amplifier are referred to it. Keep the ground path connection to the FB divider and the VC compensation capacitor free of large ground currents.", 5 VIN (power) "This is the high voltage supply pin for the output switch. It also supplies power to the internal control circuitry during start-up conditions or if the VCC pin is left open. A high quality bypass capacitor which meets the (See Datasheet)", 6 SYNC (in) "Pin used to synchronize internal oscillator to the external frequency reference. It is directly logic compatible and can be driven with any signal between 10% and 90% duty cycle. The sync function is internally disabled if (See Datasheet)", 7 FB (in) "This is the inverting input to the feedback amplifier. The noninverting input of this amplifier is internally tied to the 1.24V reference. This pin also slows down the frequency of the internal oscillator when its voltage is (See Datasheet)", 8 VC "This is the control voltage pin which is the output of the feedback amplifier and the input of the current comparator. Frequency compensation of the overall loop is effected by placing a capacitor, (or in most cases a series (See Datasheet)"

## LT1676IS8#PBF
designator U?
Wide Input Range, High Efficiency, Step-Down Switching Regulator, 8-pin SOIC (S8-8), -40 to 125 degC, Pb-Free; Manufacturer: Linear Technology; PartNumber: LT1676IS8#PBF; Number of Outputs: 1; PackageReference: S8-8; PackageDescription: 8-Pin Plastic Small Outline (Narrow .150 Inch), Body 4.9 x 3.9 mm, Pitch 1.27 mm; Supplier 1: Digi-Key; Supplier Part Number 1: LT1676IS8#PBF-ND; RoHS: TRUE
footprint LT-S8-8_N (SOIC, 8-Leads, Body 5x4mm, Pitch 1.27mm, IPC Medium Density)
footprint LT-S8-8_L (SOIC, 8-Leads, Body 5x4mm, Pitch 1.27mm, IPC High Density)
footprint LT-S8-8_M (SOIC, 8-Leads, Body 5x4mm, Pitch 1.27mm, IPC Low Density)
pins: 1 ~{SHDN} (in) "When pulled below the shutdown mode threshold, nominally 0.30V, this pin turns off the regulator and reduces VIN input current to a few tens of microamperes (shutdown mode).", 2 VCC (power) "This pin is used to power the internal control circuitry off of the switching supply output. Proper use of this pin enhances overall power supply efficiency. During start-up conditions, internal control circuitry is powered (See Datasheet)", 3 VSW (power) "This is the emitter node of the output switch and has large currents flowing through it. This node moves at a high dV/dt rate, especially when in “boost” mode. Keep the traces to the switching components as short(See Datasheet)", 4 GND (power) "This is the device ground pin. The internal reference and feedback amplifier are referred to it. Keep the ground path connection to the FB divider and the VC compensation capacitor free of large ground currents.", 5 VIN (power) "This is the high voltage supply pin for the output switch. It also supplies power to the internal control circuitry during start-up conditions or if the VCC pin is left open. A high quality bypass capacitor which meets the (See Datasheet)", 6 SYNC (in) "Pin used to synchronize internal oscillator to the external frequency reference. It is directly logic compatible and can be driven with any signal between 10% and 90% duty cycle. The sync function is internally disabled if (See Datasheet)", 7 FB (in) "This is the inverting input to the feedback amplifier. The noninverting input of this amplifier is internally tied to the 1.24V reference. This pin also slows down the frequency of the internal oscillator when its voltage is (See Datasheet)", 8 VC "This is the control voltage pin which is the output of the feedback amplifier and the input of the current comparator. Frequency compensation of the overall loop is effected by placing a capacitor, (or in most cases a series (See Datasheet)"

## LT1676IS8#TR
designator U?
Wide Input Range, High Efficiency, Step-Down Switching Regulator, 8-pin SOIC (S8-8), -40 to 125 degC, Tape and Reel; Manufacturer: Linear Technology; PartNumber: LT1676IS8#TR; Number of Outputs: 1; PackageReference: S8-8; PackageDescription: 8-Pin Plastic Small Outline (Narrow .150 Inch), Body 4.9 x 3.9 mm, Pitch 1.27 mm; Supplier 1: Digi-Key; Supplier Part Number 1: LT1676IS8#TR-ND; RoHS: FALSE
footprint LT-S8-8_N (SOIC, 8-Leads, Body 5x4mm, Pitch 1.27mm, IPC Medium Density)
footprint LT-S8-8_L (SOIC, 8-Leads, Body 5x4mm, Pitch 1.27mm, IPC High Density)
footprint LT-S8-8_M (SOIC, 8-Leads, Body 5x4mm, Pitch 1.27mm, IPC Low Density)
pins: 1 ~{SHDN} (in) "When pulled below the shutdown mode threshold, nominally 0.30V, this pin turns off the regulator and reduces VIN input current to a few tens of microamperes (shutdown mode).", 2 VCC (power) "This pin is used to power the internal control circuitry off of the switching supply output. Proper use of this pin enhances overall power supply efficiency. During start-up conditions, internal control circuitry is powered (See Datasheet)", 3 VSW (power) "This is the emitter node of the output switch and has large currents flowing through it. This node moves at a high dV/dt rate, especially when in “boost” mode. Keep the traces to the switching components as short(See Datasheet)", 4 GND (power) "This is the device ground pin. The internal reference and feedback amplifier are referred to it. Keep the ground path connection to the FB divider and the VC compensation capacitor free of large ground currents.", 5 VIN (power) "This is the high voltage supply pin for the output switch. It also supplies power to the internal control circuitry during start-up conditions or if the VCC pin is left open. A high quality bypass capacitor which meets the (See Datasheet)", 6 SYNC (in) "Pin used to synchronize internal oscillator to the external frequency reference. It is directly logic compatible and can be driven with any signal between 10% and 90% duty cycle. The sync function is internally disabled if (See Datasheet)", 7 FB (in) "This is the inverting input to the feedback amplifier. The noninverting input of this amplifier is internally tied to the 1.24V reference. This pin also slows down the frequency of the internal oscillator when its voltage is (See Datasheet)", 8 VC "This is the control voltage pin which is the output of the feedback amplifier and the input of the current comparator. Frequency compensation of the overall loop is effected by placing a capacitor, (or in most cases a series (See Datasheet)"